# Altium footprint library ERA3.PcbLib: 1 footprints
Each footprint in its own frame and in the unit in brackets; x right, y up, seen from the top. Pads: shape width x height; smd on the part's side, far side on the other; paste and mask are expansions set on the pad; w line width, h text height; cw(c..) or ccw(c..) is an arc to the next point about the centre after c.
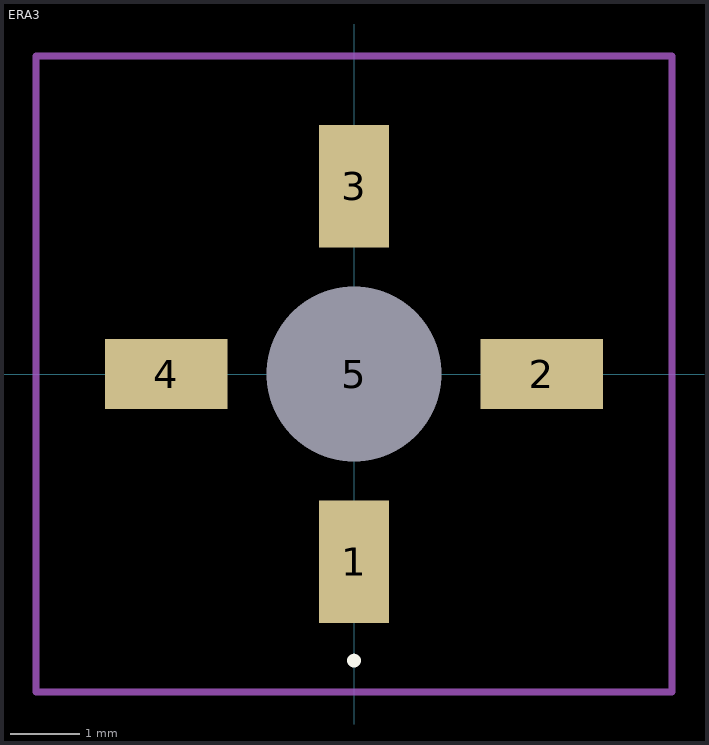
[diagram p0: the footprint, top view; thin cyan lines are the x and y axes]

## ERA3 [mil]
pads (5):
  rect 40x70 smd: 1(0,-107.01) 3(0,107.01)
  rect 70x40 smd: 2(107.01,0) 4(-107.01,0)
  round 50 hole 100 unplated: 5(0,0)
Top Overlay:
  lines w3.94: 0,-165.35 0,-165.35 ; 0,-165.35 ccw(c0,-163.39) 0,-161.42 ; 0,-165.35 cw(c0,-163.39) 0,-161.42 ; 0,-165.35 0,-165.35 ; 0,-165.35 ccw(c0,-163.39) 0,-161.42 ; 0,-161.42 0,-161.42
Mechanical 15:
  lines w3.94: -42.52,0 -42.52,0 ; -42.52,0 ccw(c0,0) 42.52,0 ; -42.52,0 cw(c0,0) 42.52,0 ; 42.52,0 42.52,0
Mechanical 20:
  lines w3.94: -181.38,-181.38 181.38,-181.38 181.38,181.38 -181.38,181.38 -181.38,-181.38